# EAGLE library part BLE-BREAKOUT-NORDIC (library FaBo-Boards)
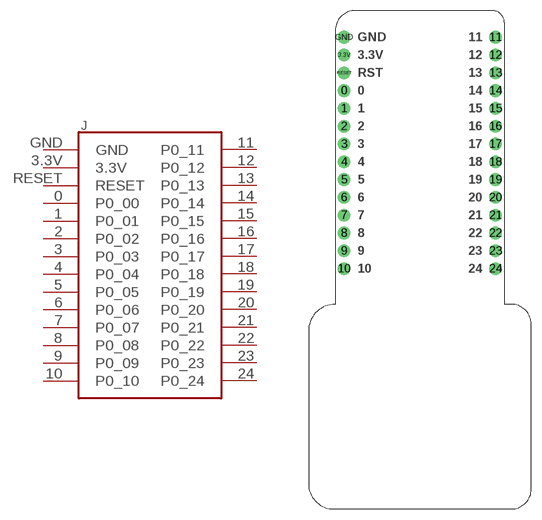
[diagram p15: symbol with the pads of BLE-BREAKOUT-NORDIC; footprint BLE-BREAKOUT-NORDIC]

Designator prefix J

## BLE-BREAKOUT-NORDIC  [BLE-BREAKOUT-NORDIC]
0  P0_00
1  P0_01
2  P0_02
3  P0_03
3.3V  3.3V
4  P0_04
5  P0_05
6  P0_06
7  P0_07
8  P0_08
9  P0_09
10  P0_10
11  P0_11
12  P0_12
13  P0_13
14  P0_14
15  P0_15
16  P0_16
17  P0_17
18  P0_18
19  P0_19
20  P0_20
21  P0_21
22  P0_22
23  P0_23
24  P0_24
GND  GND
RESET  RESET

## Footprint BLE-BREAKOUT-NORDIC (pad centres in mm)
drill 1.2: 0 -11.43,25.4; 1 -11.43,22.86; 2 -11.43,20.32; 3 -11.43,17.78; 3.3V -11.43,30.48; 4 -11.43,15.24; 5 -11.43,12.7; 6 -11.43,10.16; 7 -11.43,7.62; 8 -11.43,5.08; 9 -11.43,2.54; 10 -11.43,0; 11 10.16,33.02; 12 10.16,30.48; 13 10.16,27.94; 14 10.16,25.4; 15 10.16,22.86; 16 10.16,20.32; 17 10.16,17.78; 18 10.16,15.24; 19 10.16,12.7; 20 10.16,10.16; 21 10.16,7.62; 22 10.16,5.08; 23 10.16,2.54; 24 10.16,0; GND -11.43,33.02; RESET -11.43,27.94